# Altium schematic symbol library Schlib1.SchLib: 42 symbols (part 2 of 2)
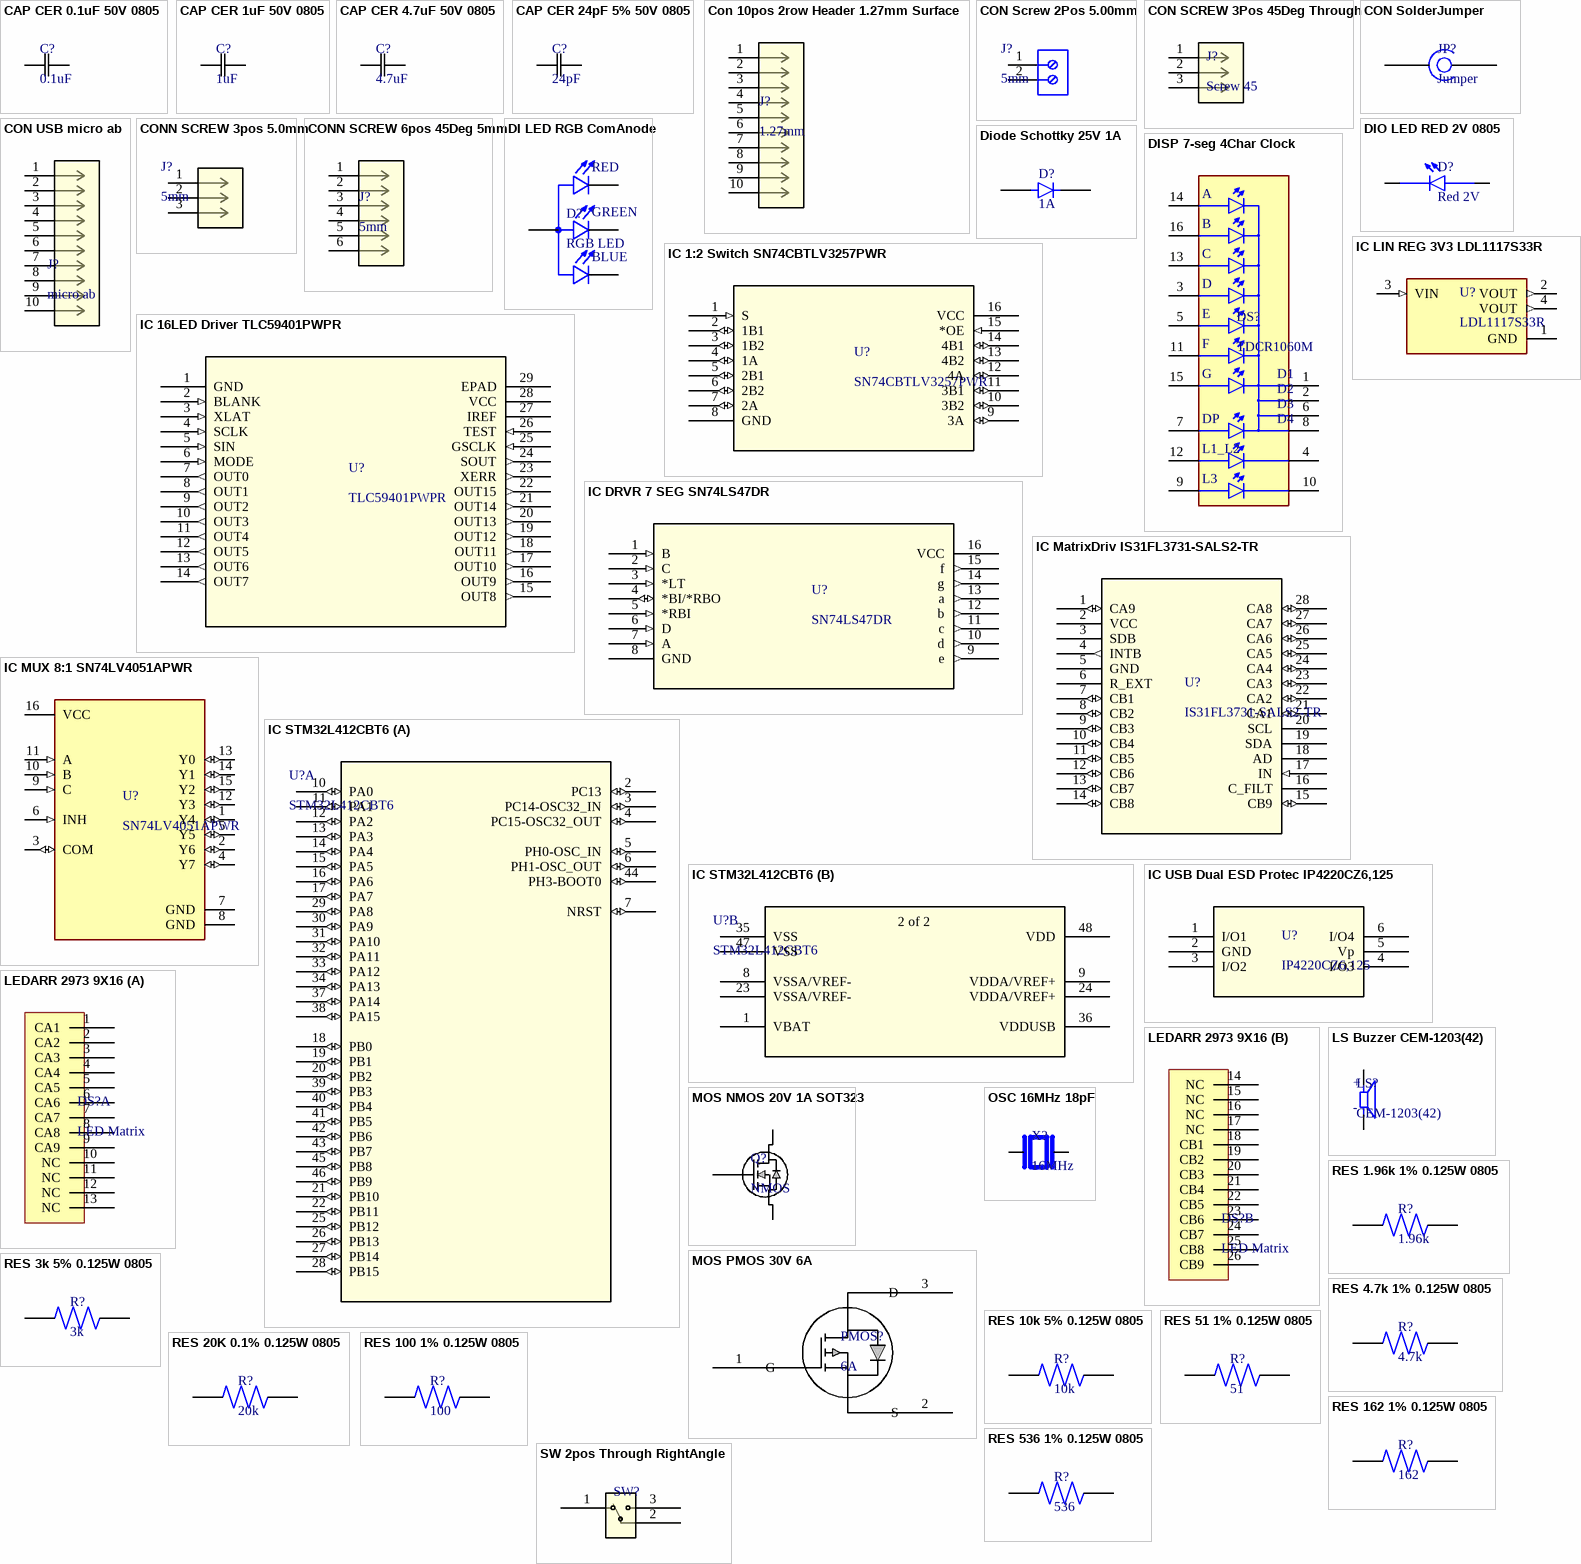
[diagram p2: symbols CAP CER 0.1uF 50V 0805 to SW 2pos Through RightAngle]

## MOS PMOS 30V 6A
designator PMOS?, comment 6A
Power Field-Effect Transistor, 6A I(D), 30V, 0.042ohm, 1-Element, P-Channel, Silicon, Metal-oxide Semiconductor FET; Manufacturer: Toshiba; Manufacturer Part Number: SSM3J372R,LF; Supplier: Digikey; Supplier Part Number: SSM3J372RLFCT-ND; RoHS: No; Category: LDO; Stock: 64640; Pricing: 1=0.35, 10=0.217, 100=0.1361, 500=0.10106, 1000=0.08971 (USD)
footprint SOT-23F MOS PMOS 30V 6A
pins: 1 G, 2 S, 3 D

## OSC 16MHz 18pF
designator X?, comment 16MHz
Crystal 16MHz ±20ppm (Tol) ±50ppm (Stability) 18pF FUND 40Ohm 2-Pin HC-49/US SMD T/R; Manufacturer: Abracon; Manufacturer Part Number: ABLS-16.000MHZ-B2-T; Supplier: Digikey; Supplier Part Number: 535-9071-1-ND; RoHS: Yes; Category: Crystals; Stock: 544; Pricing: 1=0.25, 10=0.217, 50=0.1972, 100=0.189, 500=0.16892 (USD); ComponentLink1URL: https://datasheet.ciiva.com/854/abls-854315.pdf?src-supplier=Digikey; ComponentLink1Description: https://datasheet.ciiva.com/854/abls-854315.pdf?src-supplier=Digikey; ComponentLink2URL: https://datasheet.ciiva.com/854/abls-854316.pdf?src-supplier=Digikey; ComponentLink2Description: https://datasheet.ciiva.com/854/abls-854316.pdf?src-supplier=Digikey; ComponentLink3URL: https://datasheet.ciiva.com/854/abls-854317.pdf?src-supplier=Digikey; ComponentLink3Description: https://datasheet.ciiva.com/854/abls-854317.pdf?src-supplier=Digikey; ComponentLink4URL: https://datasheet.ciiva.com/4944/abls-44621-4944490.pdf?src-supplier=Mouser; ComponentLink4Description: https://datasheet.ciiva.com/4944/abls-44621-4944490.pdf?src-supplier=Mouser; ComponentLink5URL: https://datasheet.ciiva.com/16373/abls-16373302.pdf?src-supplier=Future+Electronics; ComponentLink5Description: https://datasheet.ciiva.com/16373/abls-16373302.pdf?src-supplier=Future+Electronics
footprint OSC 16MHz
pins: 1, 2

## RES 1.96k 1% 0.125W 0805
designator R?, comment 1.96k
Fixed Resistor, Metal Glaze/thick Film, 0.125W, 1960ohm, 150V, 1% +/-Tol, 100ppm/Cel, Surface Mount, 0805; Manufacturer: Vishay; Manufacturer Part Number: CRCW08051K96FKEA; Power: 125mW; Rated Temperature: 70°C; Value: 1.96kR; Temperature Coefficient (ppm/Cel): 100; Package Height: 0.45mm; Package Length: 2mm; Package Width: 1.25mm; Reference Standard: AEC-Q200; Supplier: Digikey; Supplier Part Number: 541-1.96KCCT-ND; RoHS: Yes; Category: Chip SMD Resistors; Stock: 11809; Pricing: 1=0.1, 10=0.041, 100=0.0212, 1000=0.01478 (USD); Mounting Technology: Surface Mount; Pins: 2; Package Shape: Rectangular; Case/Package: 0805; Terminal Finish: Nickel; Min Operating Temperature: -55°C; Max Operating Temperature: 155°C; Tolerance: 1%; JESD-609 Code: e3; Resistor Type: FIXED RESISTOR; Construction: Chip; Packaging: Tape and Reel; Technology: METAL GLAZE/THICK FILM; Termination: Wraparound; Working Voltage: 150V; Reach SVHC Compliant: Yes; RoHS Compliant: Yes; ComponentLink1URL: https://datasheet.ciiva.com:443/pdfs/VipMasterIC/IC/VISH/VISH-S-A0007266705/VISH-S-A0007266705-1.pdf?src-supplier=IHS+Markit; ComponentLink1Description: https://datasheet.ciiva.com:443/pdfs/VipMasterIC/IC/VISH/VISH-S-A0007266705/VISH-S-A0007266705-1.pdf?src-supplier=IHS+Markit; ComponentLink2URL: https://datasheet.ciiva.com/11810/0900766b80d98b26-11810985.pdf?src-supplier=Rs; ComponentLink2Description: https://datasheet.ciiva.com/11810/0900766b80d98b26-11810985.pdf?src-supplier=Rs; ComponentLink3URL: https://datasheet.ciiva.com/2496/dcrcwe3-2496058.pdf?src-supplier=Digikey; ComponentLink3Description: https://datasheet.ciiva.com/2496/dcrcwe3-2496058.pdf?src-supplier=Digikey; ComponentLink4URL: https://datasheet.ciiva.com/2496/dcrcwe3-2496060.pdf?src-supplier=Digikey; ComponentLink4Description: https://datasheet.ciiva.com/2496/dcrcwe3-2496060.pdf?src-supplier=Digikey; ComponentLink5URL: https://datasheet.ciiva.com/7670/1697337-7670278.pdf?src-supplier=Element14; ComponentLink5Description: https://datasheet.ciiva.com/7670/1697337-7670278.pdf?src-supplier=Element14; ComponentLink6URL: https://datasheet.ciiva.com/16211/dcrcwe3-16211959.pdf?src-supplier=Future+Electronics; ComponentLink6Description: https://datasheet.ciiva.com/16211/dcrcwe3-16211959.pdf?src-supplier=Future+Electronics; ComponentLink7URL: https://datasheet.ciiva.com/2496/dcrcwe3-2496059.pdf?src-supplier=Digikey; ComponentLink7Description: https://datasheet.ciiva.com/2496/dcrcwe3-2496059.pdf?src-supplier=Digikey
footprint 0805
pins: 1, 2

## RES 3k 5% 0.125W 0805
designator R?, comment 3k
Fixed Resistor, Metal Glaze/thick Film, 0.125W, 3000ohm, 150V, 5% +/-Tol, 200ppm/Cel, Surface Mount, 0805; Manufacturer: Stackpole Electronics; Manufacturer Part Number: RMCF0805JT3K00; Power: 125mW; Rated Temperature: 70°C; Value: 3kR; Temperature Coefficient (ppm/Cel): 200; Package Height: 0.5mm; Package Length: 2mm; Package Width: 1.25mm; Reference Standard: AEC-Q200; Supplier: Digikey; Supplier Part Number: RMCF0805JT3K00CT-ND; RoHS: Yes; Category: Chip SMD Resistors; Stock: 118596; Pricing: 1=0.1, 10=0.022, 50=0.0126, 100=0.0101, 500=0.00644, 1000=0.00542 (USD); Mounting Technology: Surface Mount; Pins: 2; Package Shape: Rectangular; Case/Package: 0805; Terminal Finish: Nickel; Min Operating Temperature: -55°C; Max Operating Temperature: 155°C; Tolerance: 5%; JESD-609 Code: e3; Resistor Type: FIXED RESISTOR; Construction: Rectangular; Packaging: Tape and Reel; Technology: METAL GLAZE/THICK FILM; Termination: Wraparound; Working Voltage: 150V; Reach SVHC Compliant: Yes; RoHS Compliant: Yes; ComponentLink1URL: https://datasheet.ciiva.com:443/pdfs/VipMasterIC/IC/SEIE/SEIE-S-A0009541969/SEIE-S-A0009541969-1.pdf?src-supplier=IHS+Markit; ComponentLink1Description: https://datasheet.ciiva.com:443/pdfs/VipMasterIC/IC/SEIE/SEIE-S-A0009541969/SEIE-S-A0009541969-1.pdf?src-supplier=IHS+Markit; ComponentLink2URL: https://www.verical.com/server-webapp/html/getDatasheet?partID=551624&src-supplier=Verical; ComponentLink2Description: https://www.verical.com/server-webapp/html/getDatasheet?partID=551624&src-supplier=Verical; ComponentLink3URL: https://www.seielect.com/catalog/sei-rmcf_rmcp.pdf?src-supplier=Digikey; ComponentLink3Description: https://www.seielect.com/catalog/sei-rmcf_rmcp.pdf?src-supplier=Digikey; ComponentLink4URL: https://www.seielect.com/catalog/SEI-Packaging.pdf?src-supplier=Digikey; ComponentLink4Description: https://www.seielect.com/catalog/SEI-Packaging.pdf?src-supplier=Digikey; ComponentLink5URL: https://www.seielect.com/catalog/SEI-RMCF_RMCP.pdf?src-supplier=Avnet; ComponentLink5Description: https://www.seielect.com/catalog/SEI-RMCF_RMCP.pdf?src-supplier=Avnet; ComponentLink6URL: http://components.arrow.com/part/dataview/50511377S7077398N1174?src-supplier=Arrow+Electronics; ComponentLink6Description: http://components.arrow.com/part/dataview/50511377S7077398N1174?src-supplier=Arrow+Electronics; ComponentLink7URL: https://datasheet.octopart.com/RMCF0805JT3K00-Stackpole-Electronics-datasheet-141193804.pdf?src-supplier=Master+Electronics; ComponentLink7Description: https://datasheet.octopart.com/RMCF0805JT3K00-Stackpole-Electronics-datasheet-141193804.pdf?src-supplier=Master+Electronics
footprint 0805
pins: 1, 2

## RES 4.7k 1% 0.125W 0805
designator R?, comment 4.7k
Fixed Resistor, Metal Glaze/thick Film, 0.125W, 4700ohm, 150V, 1% +/-Tol, 100ppm/Cel, Surface Mount, 0805; Manufacturer: Vishay; Manufacturer Part Number: CRCW08054K70FKEA; Power: 125mW; Rated Temperature: 70°C; Value: 4.7kR; Temperature Coefficient (ppm/Cel): 100; Package Height: 0.45mm; Package Length: 2mm; Package Width: 1.25mm; Reference Standard: AEC-Q200; Supplier: Digikey; Supplier Part Number: 541-4.70KCCT-ND; RoHS: Yes; Category: Chip SMD Resistors; Stock: 228783; Pricing: 1=0.1, 10=0.041, 100=0.0212, 1000=0.01387 (USD); Mounting Technology: Surface Mount; Pins: 2; Package Shape: Rectangular; Case/Package: 0805; Terminal Finish: Nickel; Min Operating Temperature: -55°C; Max Operating Temperature: 155°C; Tolerance: 1%; JESD-609 Code: e3; Resistor Type: FIXED RESISTOR; Construction: Chip; Packaging: Tape and Reel; Technology: METAL GLAZE/THICK FILM; Termination: Wraparound; Working Voltage: 150V; Reach SVHC Compliant: Yes; RoHS Compliant: Yes; ComponentLink1URL: https://datasheet.ciiva.com:443/pdfs/VipMasterIC/IC/VISH/VISH-S-A0007266705/VISH-S-A0007266705-1.pdf?src-supplier=IHS+Markit; ComponentLink1Description: https://datasheet.ciiva.com:443/pdfs/VipMasterIC/IC/VISH/VISH-S-A0007266705/VISH-S-A0007266705-1.pdf?src-supplier=IHS+Markit; ComponentLink2URL: https://datasheet.ciiva.com/26317/fld-crcw-e3-data-en-26317145.pdf?src-supplier=Distrelec; ComponentLink2Description: https://datasheet.ciiva.com/26317/fld-crcw-e3-data-en-26317145.pdf?src-supplier=Distrelec; ComponentLink3URL: https://datasheet.ciiva.com/2467/dcrcwe3-2467438.pdf?src-supplier=Digikey; ComponentLink3Description: https://datasheet.ciiva.com/2467/dcrcwe3-2467438.pdf?src-supplier=Digikey; ComponentLink4URL: https://datasheet.ciiva.com/16213/dcrcwe3-16213733.pdf?src-supplier=Future+Electronics; ComponentLink4Description: https://datasheet.ciiva.com/16213/dcrcwe3-16213733.pdf?src-supplier=Future+Electronics
footprint 0805
pins: 1, 2

## RES 10k 5% 0.125W 0805
designator R?, comment 10k
Fixed Resistor, Metal Glaze/thick Film, 0.125W, 10000ohm, 150V, 5% +/-Tol, 200ppm/Cel, Surface Mount, 0805; Manufacturer: Panasonic; Manufacturer Part Number: ERJ-6GEYJ103V; Power: 125mW; Rated Temperature: 70°C; Value: 10kR; Temperature Coefficient (ppm/Cel): 200; Package Height: 0.6mm; Package Length: 2mm; Package Width: 1.25mm; Reference Standard: AEC-Q200; Supplier: Digikey; Supplier Part Number: P10KACT-ND; RoHS: Yes; Category: Chip SMD Resistors; Stock: 572653; Pricing: 1=0.1, 10=0.041, 50=0.0256, 100=0.0212, 500=0.01448, 1000=0.01254 (USD); Mounting Technology: Surface Mount; Pins: 2; Package Shape: Rectangular; Case/Package: 0805; Terminal Finish: Nickel; Min Operating Temperature: -55°C; Max Operating Temperature: 155°C; Tolerance: 5%; JESD-609 Code: e3; Resistor Type: FIXED RESISTOR; Construction: Rectangular; Packaging: Tape and Reel; Technology: METAL GLAZE/THICK FILM; Termination: Wraparound; Working Voltage: 150V; Reach SVHC Compliant: Yes; RoHS Compliant: Yes; ComponentLink1URL: https://datasheet.ciiva.com:443/pdfs/VipMasterIC/IC/PANA/PANA-S-A0009891627/PANA-S-A0009891627-1.pdf?src-supplier=IHS+Markit; ComponentLink1Description: https://datasheet.ciiva.com:443/pdfs/VipMasterIC/IC/PANA/PANA-S-A0009891627/PANA-S-A0009891627-1.pdf?src-supplier=IHS+Markit; ComponentLink2URL: https://datasheet.ciiva.com/11821/0900766b80f806dd-11821504.pdf?src-supplier=Rs; ComponentLink2Description: https://datasheet.ciiva.com/11821/0900766b80f806dd-11821504.pdf?src-supplier=Rs; ComponentLink3URL: https://datasheet.ciiva.com/43460/1500035-43460125.pdf?src-supplier=Farnell; ComponentLink3Description: https://datasheet.ciiva.com/43460/1500035-43460125.pdf?src-supplier=Farnell; ComponentLink4URL: https://datasheet.ciiva.com/16787/70255313-16787775.pdf?src-supplier=Allied+Electronics; ComponentLink4Description: https://datasheet.ciiva.com/16787/70255313-16787775.pdf?src-supplier=Allied+Electronics; ComponentLink5URL: https://datasheet.ciiva.com/9117/aoa0000ce1-9117371.pdf?src-supplier=Avnet; ComponentLink5Description: https://datasheet.ciiva.com/9117/aoa0000ce1-9117371.pdf?src-supplier=Avnet; ComponentLink6URL: https://datasheet.ciiva.com/22785/1500035-22785957.pdf?src-supplier=Farnell; ComponentLink6Description: https://datasheet.ciiva.com/22785/1500035-22785957.pdf?src-supplier=Farnell; ComponentLink7URL: https://datasheet.ciiva.com/28514/1678796-28514236.pdf?src-supplier=Element14; ComponentLink7Description: https://datasheet.ciiva.com/28514/1678796-28514236.pdf?src-supplier=Element14; ComponentLink8URL: https://datasheet.ciiva.com/16782/70255313-16782712.pdf?src-supplier=Allied+Electronics; ComponentLink8Description: https://datasheet.ciiva.com/16782/70255313-16782712.pdf?src-supplier=Allied+Electronics; ComponentLink9URL: https://datasheet.ciiva.com/16428/aoa0000ce1-16428072.pdf?src-supplier=Future+Electronics; ComponentLink9Description: https://datasheet.ciiva.com/16428/aoa0000ce1-16428072.pdf?src-supplier=Future+Electronics; ComponentLink10URL: https://datasheet.ciiva.com/30128/4aoa0000ce1-30128839.pdf?src-supplier=Onlinecomponents.com; ComponentLink10Description: https://datasheet.ciiva.com/30128/4aoa0000ce1-30128839.pdf?src-supplier=Onlinecomponents.com; ComponentLink11URL: https://datasheet.ciiva.com/46386/1500035-46386469.pdf?src-supplier=Element14; ComponentLink11Description: https://datasheet.ciiva.com/46386/1500035-46386469.pdf?src-supplier=Element14
footprint 0805
pins: 1, 2

## RES 20K 0.1% 0.125W 0805
designator R?, comment 20k
Fixed Resistor, Thin Film, 0.125W, 20000ohm, 150V, 0.1% +/-Tol, 25ppm/Cel, Surface Mount, 0805; Manufacturer: Susumu; Manufacturer Part Number: RG2012P-203-B-T5; Additional Feature: ANTI-SULFUR, PRECISION; Power: 250mW; Rated Temperature: 70°C; Value: 20kR; Temperature Coefficient (ppm/Cel): 25; Package Height: 0.4mm; Package Length: 2mm; Package Width: 1.25mm; Reference Standard: AEC-Q200; Supplier: Digikey; Supplier Part Number: RG20P20.0KBCT-ND; RoHS: Yes; Category: Chip SMD Resistors; Stock: 60124; Pricing: 1=0.1, 10=0.1, 50=0.0976, 100=0.0922, 500=0.07576, 1000=0.06825 (USD); Mounting Technology: Surface Mount; Pins: 2; Case/Package: 0805; Terminal Finish: Nickel; Min Operating Temperature: -55°C; Max Operating Temperature: 155°C; Tolerance: 0.1%; JESD-609 Code: e3; Resistor Type: FIXED RESISTOR; Construction: Rectangular; Packaging: Tape and Reel; Technology: THIN FILM; Termination: Wraparound; Working Voltage: 150V; Reach SVHC Compliant: Yes; RoHS Compliant: Yes; ComponentLink1URL: https://datasheet.ciiva.com:443/pdfs/VipMasterIC/IC/SUSU/SUSU-S-A0004582566/SUSU-S-A0004582566-1.pdf?src-supplier=IHS+Markit; ComponentLink1Description: https://datasheet.ciiva.com:443/pdfs/VipMasterIC/IC/SUSU/SUSU-S-A0004582566/SUSU-S-A0004582566-1.pdf?src-supplier=IHS+Markit; ComponentLink2URL: https://datasheet.ciiva.com/2488/rg-data-sheet-2488618.pdf?src-supplier=Digikey; ComponentLink2Description: https://datasheet.ciiva.com/2488/rg-data-sheet-2488618.pdf?src-supplier=Digikey; ComponentLink3URL: https://datasheet.ciiva.com/2488/rg-data-sheet-2488619.pdf?src-supplier=Digikey; ComponentLink3Description: https://datasheet.ciiva.com/2488/rg-data-sheet-2488619.pdf?src-supplier=Digikey; ComponentLink4URL: https://datasheet.ciiva.com/2488/rg-data-sheet-2488620.pdf?src-supplier=Digikey; ComponentLink4Description: https://datasheet.ciiva.com/2488/rg-data-sheet-2488620.pdf?src-supplier=Digikey; ComponentLink5URL: https://datasheet.ciiva.com/5624/rg-rm-rgh-datasheet-5624652.pdf?src-supplier=Mouser; ComponentLink5Description: https://datasheet.ciiva.com/5624/rg-rm-rgh-datasheet-5624652.pdf?src-supplier=Mouser; ComponentLink6URL: https://datasheet.ciiva.com/17424/rg-rm-rgh-datasheet-17424937.pdf?src-supplier=Future+Electronics; ComponentLink6Description: https://datasheet.ciiva.com/17424/rg-rm-rgh-datasheet-17424937.pdf?src-supplier=Future+Electronics
footprint 0805
pins: 1, 2

## RES 51 1% 0.125W 0805
designator R?, comment 51
Fixed Resistor, Metal Glaze/thick Film, 0.125W, 51ohm, 150V, 1% +/-Tol, 100ppm/Cel, Surface Mount, 0805; Manufacturer: Yageo; Manufacturer Part Number: RC0805FR-0751RL; Additional Feature: LASER TRIMMABLE; Power: 125mW; Rated Temperature: 70°C; Value: 51R; Temperature Coefficient (ppm/Cel): 100; Package Height: 0.5mm; Package Length: 2mm; Package Width: 1.25mm; Supplier: Digikey; Supplier Part Number: 311-51.0CRCT-ND; RoHS: Yes; Category: Chip SMD Resistors; Stock: 705334; Pricing: 1=0.1, 10=0.01, 100=0.0092, 1000=0.00714, 2500=0.00699 (USD); Mounting Technology: Surface Mount; Pins: 2; Package Shape: Rectangular; Case/Package: 0805; Terminal Finish: Nickel; Min Operating Temperature: -55°C; Max Operating Temperature: 155°C; Tolerance: 1%; JESD-609 Code: e3; Resistor Type: FIXED RESISTOR; Construction: Chip; Packaging: Tape and Reel; Technology: METAL GLAZE/THICK FILM; Termination: Wraparound; Working Voltage: 150V; Reach SVHC Compliant: Yes; RoHS Compliant: Yes; ComponentLink1URL: https://datasheet.ciiva.com:443/pdfs/VipMasterIC/IC/YAGO/YAGO-S-A0008145938/YAGO-S-A0008145938-1.pdf?src-supplier=IHS+Markit; ComponentLink1Description: https://datasheet.ciiva.com:443/pdfs/VipMasterIC/IC/YAGO/YAGO-S-A0008145938/YAGO-S-A0008145938-1.pdf?src-supplier=IHS+Markit; ComponentLink2URL: https://datasheet.ciiva.com/11808/0900766b8106beab-11808616.pdf?src-supplier=Rs; ComponentLink2Description: https://datasheet.ciiva.com/11808/0900766b8106beab-11808616.pdf?src-supplier=Rs; ComponentLink3URL: https://datasheet.ciiva.com/2458/pyu-r-int-thick-7-2458125.pdf?src-supplier=Digikey; ComponentLink3Description: https://datasheet.ciiva.com/2458/pyu-r-int-thick-7-2458125.pdf?src-supplier=Digikey; ComponentLink4URL: https://datasheet.ciiva.com/2458/pyu-r-int-thick-7-2458126.pdf?src-supplier=Digikey; ComponentLink4Description: https://datasheet.ciiva.com/2458/pyu-r-int-thick-7-2458126.pdf?src-supplier=Digikey; ComponentLink5URL: https://datasheet.ciiva.com/2458/pyu-r-int-thick-7-2458124.pdf?src-supplier=Digikey; ComponentLink5Description: https://datasheet.ciiva.com/2458/pyu-r-int-thick-7-2458124.pdf?src-supplier=Digikey; ComponentLink6URL: https://datasheet.ciiva.com/5558/rc0805-5558015.pdf?src-supplier=Mouser; ComponentLink6Description: https://datasheet.ciiva.com/5558/rc0805-5558015.pdf?src-supplier=Mouser; ComponentLink7URL: https://datasheet.ciiva.com/15189/getdatasheetpartid-326572-15189991.pdf?src-supplier=Verical; ComponentLink7Description: https://datasheet.ciiva.com/15189/getdatasheetpartid-326572-15189991.pdf?src-supplier=Verical; ComponentLink8URL: https://datasheet.ciiva.com/17419/rc0805-17419917.pdf?src-supplier=Future+Electronics; ComponentLink8Description: https://datasheet.ciiva.com/17419/rc0805-17419917.pdf?src-supplier=Future+Electronics
footprint 0805
pins: 1, 2

## RES 100 1% 0.125W 0805
designator R?, comment 100
Fixed Resistor, Metal Glaze/thick Film, 0.125W, 100ohm, 150V, 1% +/-Tol, 100ppm/Cel, Surface Mount, 0805; Manufacturer: Yageo; Manufacturer Part Number: RC0805FR-07100RL; Additional Feature: LASER TRIMMABLE; Power: 125mW; Rated Temperature: 70°C; Value: 100R; Package Height: 0.5mm; Package Length: 2mm; Package Width: 1.25mm; Supplier: Digikey; Supplier Part Number: 311-100CRCT-ND; RoHS: Yes; Category: Chip SMD Resistors; Stock: 218271; Pricing: 1=0.1, 10=0.015, 100=0.0143, 1000=0.01224, 2500=0.00686 (USD); Mounting Technology: Surface Mount; Pins: 2; Package Shape: Rectangular; Case/Package: 0805; Terminal Finish: Nickel; Min Operating Temperature: -55°C; Max Operating Temperature: 155°C; Tolerance: 1%; JESD-609 Code: e3; Resistor Type: FIXED RESISTOR; Construction: Chip; Packaging: Tape and Reel; Technology: METAL GLAZE/THICK FILM; Termination: Wraparound; Working Voltage: 150V; Temperature Coefficient (ppm/Cel): 100; Reach SVHC Compliant: Yes; RoHS Compliant: Yes; ComponentLink1URL: https://datasheet.ciiva.com:443/pdfs/VipMasterIC/IC/YAGO/YAGO-S-A0008145938/YAGO-S-A0008145938-1.pdf?src-supplier=IHS+Markit; ComponentLink1Description: https://datasheet.ciiva.com:443/pdfs/VipMasterIC/IC/YAGO/YAGO-S-A0008145938/YAGO-S-A0008145938-1.pdf?src-supplier=IHS+Markit; ComponentLink2URL: https://datasheet.ciiva.com/11808/0900766b8106beab-11808877.pdf?src-supplier=Rs; ComponentLink2Description: https://datasheet.ciiva.com/11808/0900766b8106beab-11808877.pdf?src-supplier=Rs; ComponentLink3URL: https://datasheet.ciiva.com/7941/1697719-7941680.pdf?src-supplier=Element14; ComponentLink3Description: https://datasheet.ciiva.com/7941/1697719-7941680.pdf?src-supplier=Element14; ComponentLink4URL: https://datasheet.ciiva.com/7941/1686128-7941679.pdf?src-supplier=Element14; ComponentLink4Description: https://datasheet.ciiva.com/7941/1686128-7941679.pdf?src-supplier=Element14; ComponentLink5URL: https://datasheet.ciiva.com/46447/444164-46447562.pdf?src-supplier=Element14; ComponentLink5Description: https://datasheet.ciiva.com/46447/444164-46447562.pdf?src-supplier=Element14; ComponentLink6URL: https://datasheet.ciiva.com/2456/pyu-r-int-thick-7-2456989.pdf?src-supplier=Digikey; ComponentLink6Description: https://datasheet.ciiva.com/2456/pyu-r-int-thick-7-2456989.pdf?src-supplier=Digikey; ComponentLink7URL: https://datasheet.ciiva.com/2456/pyu-r-int-thick-7-2456987.pdf?src-supplier=Digikey; ComponentLink7Description: https://datasheet.ciiva.com/2456/pyu-r-int-thick-7-2456987.pdf?src-supplier=Digikey; ComponentLink8URL: https://datasheet.ciiva.com/17082/rc0805-17082697.pdf?src-supplier=Future+Electronics; ComponentLink8Description: https://datasheet.ciiva.com/17082/rc0805-17082697.pdf?src-supplier=Future+Electronics; ComponentLink9URL: https://datasheet.ciiva.com/7660/38627-7660797.pdf?src-supplier=Element14; ComponentLink9Description: https://datasheet.ciiva.com/7660/38627-7660797.pdf?src-supplier=Element14; ComponentLink10URL: https://datasheet.ciiva.com/22747/444164-22747535.pdf?src-supplier=Element14; ComponentLink10Description: https://datasheet.ciiva.com/22747/444164-22747535.pdf?src-supplier=Element14; ComponentLink11URL: https://datasheet.ciiva.com/2456/pyu-r-int-thick-7-2456988.pdf?src-supplier=Digikey; ComponentLink11Description: https://datasheet.ciiva.com/2456/pyu-r-int-thick-7-2456988.pdf?src-supplier=Digikey
footprint 0805
pins: 1, 2

## RES 162 1% 0.125W 0805
designator R?, comment 162
Fixed Resistor, Metal Glaze/thick Film, 0.125W, 162ohm, 150V, 1% +/-Tol, 100ppm/Cel, Surface Mount, 0805; Manufacturer: Yageo; Manufacturer Part Number: RC0805FR-07162RL; Additional Feature: LASER TRIMMABLE; Power: 125mW; Rated Temperature: 70°C; Value: 162R; Temperature Coefficient (ppm/Cel): 100; Package Height: 0.5mm; Package Length: 2mm; Package Width: 1.25mm; Supplier: Digikey; Supplier Part Number: 311-162CRCT-ND; RoHS: Yes; Category: Chip SMD Resistors; Stock: 65718; Pricing: 1=0.1, 10=0.013, 100=0.0112, 1000=0.00816, 2500=0.00735 (USD); Mounting Technology: Surface Mount; Pins: 2; Package Shape: Rectangular; Case/Package: 0805; Terminal Finish: Nickel; Min Operating Temperature: -55°C; Max Operating Temperature: 155°C; Tolerance: 1%; JESD-609 Code: e3; Resistor Type: FIXED RESISTOR; Construction: Chip; Packaging: Tape and Reel; Technology: METAL GLAZE/THICK FILM; Termination: Wraparound; Working Voltage: 150V; Reach SVHC Compliant: Yes; RoHS Compliant: Yes; ComponentLink1URL: https://datasheet.ciiva.com:443/pdfs/VipMasterIC/IC/YAGO/YAGO-S-A0008145938/YAGO-S-A0008145938-1.pdf?src-supplier=IHS+Markit; ComponentLink1Description: https://datasheet.ciiva.com:443/pdfs/VipMasterIC/IC/YAGO/YAGO-S-A0008145938/YAGO-S-A0008145938-1.pdf?src-supplier=IHS+Markit; ComponentLink2URL: https://datasheet.ciiva.com/2457/pyu-r-int-thick-7-2457830.pdf?src-supplier=Digikey; ComponentLink2Description: https://datasheet.ciiva.com/2457/pyu-r-int-thick-7-2457830.pdf?src-supplier=Digikey; ComponentLink3URL: https://datasheet.ciiva.com/2457/pyu-r-int-thick-7-2457831.pdf?src-supplier=Digikey; ComponentLink3Description: https://datasheet.ciiva.com/2457/pyu-r-int-thick-7-2457831.pdf?src-supplier=Digikey; ComponentLink4URL: https://datasheet.ciiva.com/2457/pyu-r-int-thick-7-2457832.pdf?src-supplier=Digikey; ComponentLink4Description: https://datasheet.ciiva.com/2457/pyu-r-int-thick-7-2457832.pdf?src-supplier=Digikey
footprint 0805
pins: 1, 2

## RES 536 1% 0.125W 0805
designator R?, comment 536
Fixed Resistor, Metal Glaze/thick Film, 0.125W, 536ohm, 150V, 1% +/-Tol, 100ppm/Cel, Surface Mount, 0805; Manufacturer: Yageo; Manufacturer Part Number: RC0805FR-07536RL; Additional Feature: LASER TRIMMABLE; Power: 125mW; Rated Temperature: 70°C; Value: 536R; Temperature Coefficient (ppm/Cel): 100; Package Height: 0.5mm; Package Length: 2mm; Package Width: 1.25mm; Supplier: Digikey; Supplier Part Number: 311-536CRCT-ND; RoHS: Yes; Category: Chip SMD Resistors; Stock: 234523; Pricing: 1=0.1, 10=0.013, 100=0.0122, 1000=0.00714, 2500=0.00686 (USD); Mounting Technology: Surface Mount; Pins: 2; Package Shape: Rectangular; Case/Package: 0805; Terminal Finish: Nickel; Min Operating Temperature: -55°C; Max Operating Temperature: 155°C; Tolerance: 1%; JESD-609 Code: e3; Resistor Type: FIXED RESISTOR; Construction: Chip; Packaging: Tape and Reel; Technology: METAL GLAZE/THICK FILM; Termination: Wraparound; Working Voltage: 150V; Reach SVHC Compliant: Yes; RoHS Compliant: Yes; ComponentLink1URL: https://datasheet.ciiva.com:443/pdfs/VipMasterIC/IC/YAGO/YAGO-S-A0008145938/YAGO-S-A0008145938-1.pdf?src-supplier=IHS+Markit; ComponentLink1Description: https://datasheet.ciiva.com:443/pdfs/VipMasterIC/IC/YAGO/YAGO-S-A0008145938/YAGO-S-A0008145938-1.pdf?src-supplier=IHS+Markit; ComponentLink2URL: https://datasheet.ciiva.com/17086/rc0805-17086270.pdf?src-supplier=Future+Electronics; ComponentLink2Description: https://datasheet.ciiva.com/17086/rc0805-17086270.pdf?src-supplier=Future+Electronics
footprint 0805
pins: 1, 2

## SW 2pos Through RightAngle
designator SW?, comment OS102011MA1QN1  (value not drawn)
Slide Switch, 2 Positions, SPDT, On-on, Latched, 0.1A, 12VDC, 5 PCB Hole Cnt, Solder Terminal, Through Hole-right Angle; Manufacturer: ITT C&K; Manufacturer Part Number: OS102011MA1QN1C; Manufacturer Series: OS; Actuator Material: Polyoxymethylene; Actuator Color: Black; Center Contact Plating: Silver; End Contact Material: Copper Alloy; Contact Current(DC)-Max: 100mA; Contact DC Max Rating R Load: .1A@12VDC; Contact Voltage(DC)-Max: 12V; Contact Resistance: 0.02mR; Dielectric Withstand Volts: 500VACV; Insulation Resistance: 100MR; Number of Positions: 2; PCB Hole Count: 5; Body Breadth: 4.4mm; Body Height: 4.7mm; Body Length or Diameter: 8.6mm; Actuator Length: 0.157inch; Supplier: Digikey; Supplier Part Number: 108-OS102011MA1QN1C-ND; RoHS: Yes; Category: Uncategorized; Pricing: 1200=0.39311 (USD); Mounting Technology: Through Hole; Terminal Finish: Silver; Contact Material: Brass; Insulation Material: Phenolic; Terminal Material: Brass; Min Operating Temperature: -10°C; Max Operating Temperature: 70°C; JESD-609 Code: e4; Packaging: Bulk; Switch Action: LATCHED; Switch Function: SPDT; Switch Type: Slide Switch; Termination: Solder; Actuator Type: SLIDE; Contact Function: On-On; RoHS Compliant: Yes; Reach SVHC Compliant: Yes; ComponentLink1URL: https://datasheet.ciiva.com:443/pdfs/VipMasterIC/IC/CKCI/CKCI-S-A0001796527/CKCI-S-A0001948557-1.pdf?src-supplier=IHS+Markit; ComponentLink1Description: https://datasheet.ciiva.com:443/pdfs/VipMasterIC/IC/CKCI/CKCI-S-A0001796527/CKCI-S-A0001948557-1.pdf?src-supplier=IHS+Markit; ComponentLink2URL: http://components.arrow.com/part/dataview/56747024S511465N9444?src-supplier=Arrow+Electronics; ComponentLink2Description: http://components.arrow.com/part/dataview/56747024S511465N9444?src-supplier=Arrow+Electronics; ComponentLink3URL: http://www.mouser.com/ds/2/60/os-965314.pdf?src-supplier=Mouser; ComponentLink3Description: http://www.mouser.com/ds/2/60/os-965314.pdf?src-supplier=Mouser; ComponentLink4URL: https://datasheet.octopart.com/OS102011MA1QN1C-C%26K-Components-datasheet-165712316.pdf?src-supplier=Newark; ComponentLink4Description: https://datasheet.octopart.com/OS102011MA1QN1C-C%26K-Components-datasheet-165712316.pdf?src-supplier=Newark; ComponentLink5URL: http://www.ck-components.com/14388/os_17aug.pdf/?src-supplier=Avnet; ComponentLink5Description: http://www.ck-components.com/14388/os_17aug.pdf/?src-supplier=Avnet; ComponentLink6URL: https://datasheet.octopart.com/OS102011MA1QN1C-C%26K-Components-datasheet-150821956.pdf?src-supplier=Sager+Electronics; ComponentLink6Description: https://datasheet.octopart.com/OS102011MA1QN1C-C%26K-Components-datasheet-150821956.pdf?src-supplier=Sager+Electronics
footprint OS102011MA1QN1
pins: 1, 2, 3

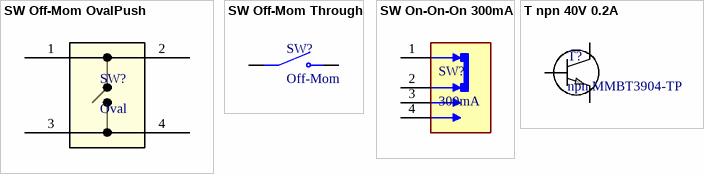
[diagram p1: symbols SW Off-Mom OvalPush to T npn 40V 0.2A]

## SW Off-Mom OvalPush
designator SW?, comment Oval
Keypad Switch, 1 Switches, SPST, Momentary-tactile, 0.05A, 12VDC, 1.76N, Solder Terminal, Surface Mount-straight; Manufacturer: E-Switch; Manufacturer Part Number: TL3365AF180QG; Supplier: Digikey; Supplier Part Number: EG5384CT-ND; RoHS: No; Category: Tactile Switches; Stock: 5947; Pricing: 1=0.24, 10=0.211, 25=0.198, 100=0.1776, 250=0.16468, 500=0.1554, 1000=0.14667 (USD); RoHS Compliant: Yes; ComponentLink1URL: https://datasheet.ciiva.com:443/pdfs/VipMasterIC/IC/ESCH/ESCH-S-A0007025580/ESCH-S-A0007025580-1.pdf?src-supplier=IHS+Markit; ComponentLink1Description: https://datasheet.ciiva.com:443/pdfs/VipMasterIC/IC/ESCH/ESCH-S-A0007025580/ESCH-S-A0007025580-1.pdf?src-supplier=IHS+Markit; ComponentLink2URL: http://www.farnell.com/datasheets/2628629.pdf?src-supplier=Farnell; ComponentLink2Description: http://www.farnell.com/datasheets/2628629.pdf?src-supplier=Farnell; ComponentLink3URL: http://www.farnell.com/datasheets/2628629.pdf?src-supplier=Newark; ComponentLink3Description: http://www.farnell.com/datasheets/2628629.pdf?src-supplier=Newark; ComponentLink4URL: https://www.e-switch.com/system/asset/product_line/data_sheet/218/TL3365.pdf?src-supplier=Digikey; ComponentLink4Description: https://www.e-switch.com/system/asset/product_line/data_sheet/218/TL3365.pdf?src-supplier=Digikey; ComponentLink5URL: http://www.farnell.com/datasheets/2628629.pdf?src-supplier=Element14; ComponentLink5Description: http://www.farnell.com/datasheets/2628629.pdf?src-supplier=Element14; ComponentLink6URL: https://datasheet.octopart.com/TL3365AF180QG-E-Switch-datasheet-188936971.pdf?src-supplier=TME; ComponentLink6Description: https://datasheet.octopart.com/TL3365AF180QG-E-Switch-datasheet-188936971.pdf?src-supplier=TME
footprint Oval Button
pins: 1, 2, 3, 4

## SW Off-Mom Through
designator SW?, comment Off-Mom
Pushbutton Switch, SPST, Momentary-tactile, 0.05A, Solder Terminal, Through Hole-straight; Manufacturer: TE Connectivity Alcoswitch; Manufacturer Part Number: FSM103; Contact Current(DC)-Max: 50mA; Operating Force-Max: 1.57N; Actuator Type: SQUARE/EXTENDED TYPE; Supplier: Digikey; Supplier Part Number: 450-1158-ND; RoHS: Yes; Category: Pushbutton Switches; Stock: 27729; Pricing: 1=0.4, 10=0.345, 25=0.3224, 100=0.2883, 400=0.25685, 800=0.2425, 1200=0.23463, 2800=0.21944, 5200=0.20947 (USD); Mounting Technology: Through Hole; Switch Action: MOMENTARY-TACTILE; Switch Function: SPST; Switch Type: Pushbutton; Termination: Solder; Contact Current(AC)-Max: 50mA; Packaging: Bulk; RoHS Compliant: Yes; Reach SVHC Compliant: Yes; ComponentLink1URL: https://www.te.com:443/usa-en/product-1437565-5.datasheet.pdf?src-supplier=IHS+Markit; ComponentLink1Description: https://www.te.com:443/usa-en/product-1437565-5.datasheet.pdf?src-supplier=IHS+Markit; ComponentLink2URL: https://datasheet.ciiva.com/2899/eng-cd-1437565-5-e2-2899955.pdf?src-supplier=Digikey; ComponentLink2Description: https://datasheet.ciiva.com/2899/eng-cd-1437565-5-e2-2899955.pdf?src-supplier=Digikey; ComponentLink3URL: https://datasheet.ciiva.com/8661/eng-cd-1437565-5-d-8661873.pdf?src-supplier=Avnet; ComponentLink3Description: https://datasheet.ciiva.com/8661/eng-cd-1437565-5-d-8661873.pdf?src-supplier=Avnet; ComponentLink4URL: https://datasheet.ciiva.com/5809/eng-cd-1437565-5-e2-5809302.pdf?src-supplier=Farnell; ComponentLink4Description: https://datasheet.ciiva.com/5809/eng-cd-1437565-5-e2-5809302.pdf?src-supplier=Farnell; ComponentLink5URL: https://datasheet.ciiva.com/7635/921681-7635435.pdf?src-supplier=Element14; ComponentLink5Description: https://datasheet.ciiva.com/7635/921681-7635435.pdf?src-supplier=Element14; ComponentLink6URL: https://datasheet.ciiva.com/31838/eng-cat-1308390-0904-e15-e25-31838910.pdf?src-supplier=Onlinecomponents.com; ComponentLink6Description: https://datasheet.ciiva.com/31838/eng-cat-1308390-0904-e15-e25-31838910.pdf?src-supplier=Onlinecomponents.com
footprint Switch off-Mom
pins: 1 COM, 2 COM, 3 NO, 4 NO

## SW On-On-On 300mA
designator SW?, comment 300mA
12.7 x 7.5 x 4.5 mm, 2 mm Raised Slide Actuator, Right Angle, Through Hole, Slide Switch; Manufacturer: Same Sky; Manufacturer Part Number: SLW-1277545-2A-RA-S-D; Supplier: Digikey; Supplier Part Number: 2223-SLW-1277545-2A-RA-S-D-ND; RoHS: No; Stock: 2799; Pricing: 1=0.39, 10=0.336, 25=0.314, 100=0.2811, 250=0.26048, 500=0.24582, 1000=0.23217, 3000=0.2128, 5000=0.20479 (USD)
footprint Switch On-On-On 300mA SLW-1277545-2A-RA-S-D
pins: 1, 2, 3, 4

## T npn 40V 0.2A
designator T?, comment npn MMBT3904-TP
Small Signal Bipolar Transistor, 0.2A I(C), 40V V(BR)CEO, 1-Element, NPN, Silicon; Manufacturer: MCC; Package Body Material: Plastic; Max Collector Current: 200mA; DC Current Gain-Min (hFE): 30; Number of Elements: 1; Power Dissipation-Max (Abs): 350mW; Time @ Peak Reflow Temperature-Max (s): 10s; Transistor Application: AMPLIFIER; Frequency: 300MHz; Turn-off Time-Max (toff): 250ns; Turn-on Time-Max (ton): 70ns; Qualification Status: Not Qualified; Supplier: Digikey; Supplier Part Number: MMBT3904TPMSCT-ND; Manufacturer Part Number: MMBT3904-TP; RoHS: Yes; Category: BJTs; Stock: 1384347; Pricing: 1=0.1, 10=0.063, 100=0.0387, 500=0.02782, 1000=0.02427 (USD); Pins: 3; Package Shape: Rectangular; Terminal Finish: Tin; Transistor Element Material: SILICON; Max Operating Temperature: 150°C; JESD-609 Code: e3; Polarity/Channel Type: NPN; Collector-emitter Voltage-Max: 40V; JESD-30 Code: R-PDSO-G3; Moisture Sensitivity Level: 1; Package Style: SMALL OUTLINEMeter; Peak Reflow Temperature (Cel): 260°C; Surface Mount: Yes; Terminal Form: Gull Wing; Terminal Position: DUAL; Reach SVHC Compliant: Yes; RoHS Compliant: Yes; ComponentLink1URL: https://datasheet.ciiva.com:443/pdfs/VipMasterIC/IC/MCCC/MCCC-S-A0009373541/MCCC-S-A0009372855-1.pdf?src-supplier=IHS+Markit; ComponentLink1Description: https://datasheet.ciiva.com:443/pdfs/VipMasterIC/IC/MCCC/MCCC-S-A0009373541/MCCC-S-A0009372855-1.pdf?src-supplier=IHS+Markit; ComponentLink2URL: https://datasheet.ciiva.com/16291/mmbt3904sot-23-37005-16291911.pdf?src-supplier=Mouser; ComponentLink2Description: https://datasheet.ciiva.com/16291/mmbt3904sot-23-37005-16291911.pdf?src-supplier=Mouser; ComponentLink3URL: https://datasheet.ciiva.com/15139/getdatasheetpartid-251950-15139820.pdf?src-supplier=Verical; ComponentLink3Description: https://datasheet.ciiva.com/15139/getdatasheetpartid-251950-15139820.pdf?src-supplier=Verical; ComponentLink4URL: https://datasheet.ciiva.com/972/mmbt3904sot-23-972515.pdf?src-supplier=Digikey; ComponentLink4Description: https://datasheet.ciiva.com/972/mmbt3904sot-23-972515.pdf?src-supplier=Digikey; ComponentLink5URL: https://datasheet.ciiva.com/14546/70055699-14546053.pdf?src-supplier=Allied+Electronics; ComponentLink5Description: https://datasheet.ciiva.com/14546/70055699-14546053.pdf?src-supplier=Allied+Electronics; ComponentLink6URL: https://datasheet.ciiva.com/16742/mmbt3904tsot-523-16742101.pdf?src-supplier=Future+Electronics; ComponentLink6Description: https://datasheet.ciiva.com/16742/mmbt3904tsot-523-16742101.pdf?src-supplier=Future+Electronics; ComponentLink7URL: https://datasheet.ciiva.com/972/mmbt3904sot-23-972516.pdf?src-supplier=Digikey; ComponentLink7Description: https://datasheet.ciiva.com/972/mmbt3904sot-23-972516.pdf?src-supplier=Digikey
footprint SOT-23 Transistor
pins: 1, 2, 3